# Altium footprint library 10X SD CARD READER PCB.PcbLib: 35 footprints (part 2 of 3)
Each footprint in its own frame and in the unit in brackets; x right, y up, seen from the top. Pads: shape width x height; smd on the part's side, far side on the other; paste and mask are expansions set on the pad; w line width, h text height; cw(c..) or ccw(c..) is an arc to the next point about the centre after c.
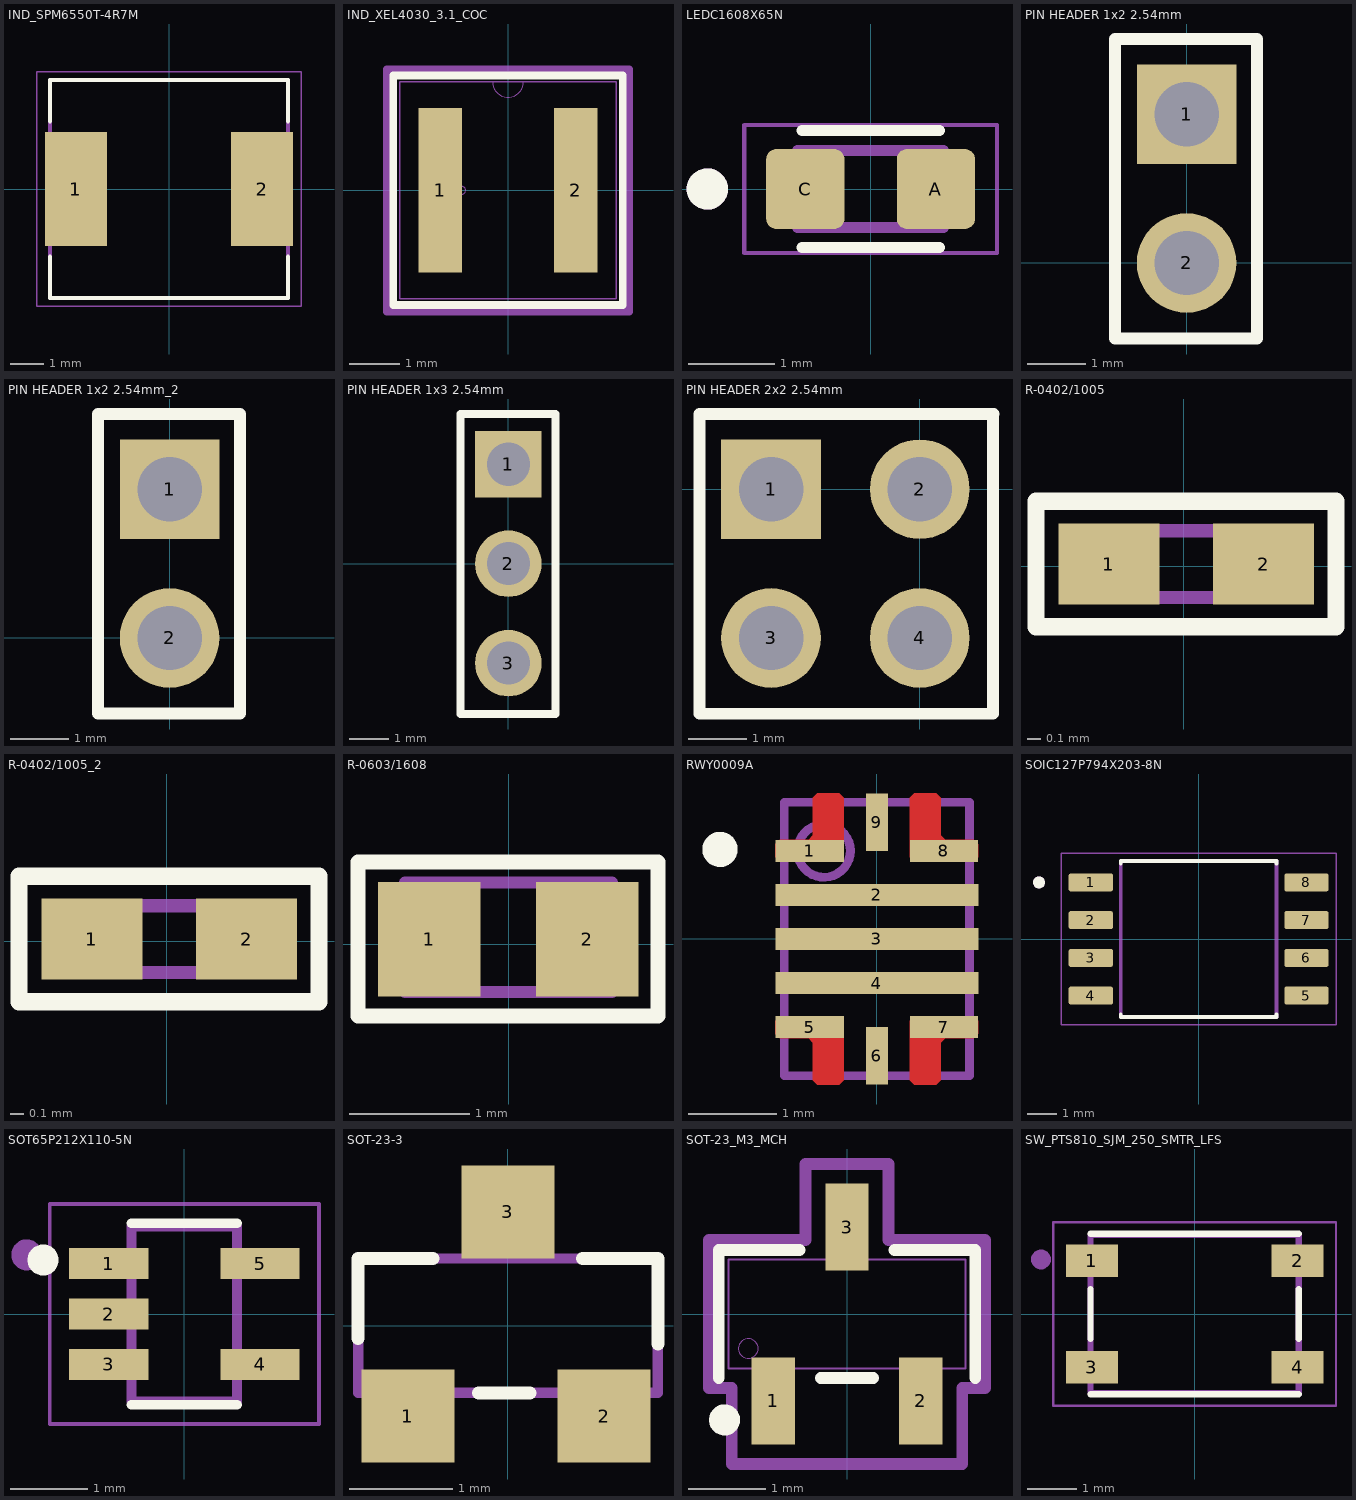
[diagram p1: the footprints below, top view; thin cyan lines are the x and y axes]

## IND_SPM6550T-4R7M [mm]
height 5
pads (2):
  rect 1.85x3.4 smd: 1(-2.775,0) 2(2.775,0)
Top Overlay:
  lines w0.127: -3.55,-2.02 -3.55,-3.25 3.55,-3.25 3.55,-2.02 ; -3.55,2.02 -3.55,3.25 3.55,3.25 3.55,2.02
Mechanical 13:
  lines w0.127: -3.55,-3.25 -3.55,3.25 3.55,3.25 3.55,-3.25 -3.55,-3.25
Mechanical 15:
  lines w0.05: -3.95,-3.5 -3.95,3.5 3.95,3.5 3.95,-3.5 -3.95,-3.5
3D body "step_temp.STEP": height 5, standoff 0, extent -3.55,-3.25 3.55,3.25

## IND_XEL4030_3.1_COC [mil]
pads (2):
  rect 34x128 smd paste+0 mask+0: 1(-53,0) 2(53,0)
Top Overlay:
  lines w6: -89.5,-89.5 89.5,-89.5 89.5,89.5 -89.5,89.5 -89.5,-89.5
Mechanical 13:
  circle w0: c-36,0 r3
  lines w0: -12,84.5 ccw(c0,84.5) 12,84.5
  lines w1: -84.5,-84.5 84.5,-84.5 84.5,84.5 -84.5,84.5 -84.5,-84.5
Mechanical 15:
  lines w6: -94.5,-94.5 -94.5,-74 -94.5,74 -94.5,94.5 94.5,94.5 94.5,74 94.5,-74 94.5,-94.5 -94.5,-94.5
3D body "IND_XEL4030_31_COC.step": height 122.09, standoff 0, extent -84.49,-84.49 84.49,84.49

## LEDC1608X65N [mm]
pads (2):
  rrect25% 0.91x0.93 smd: A(0.76,0) C(-0.76,0)
Top Overlay:
  circle w0.24: c-1.9,0 r0.12
  lines w0.127: -0.8,-0.68 0.8,-0.68 ; -0.8,0.68 0.8,0.68
Mechanical 13:
  circle w0.24: c-1.9,0 r0.12
  lines w0.127: -0.85,-0.45 0.85,-0.45 0.85,0.45 -0.85,0.45 -0.85,-0.45
Mechanical 15:
  lines w0.05: -1.47,-0.744 1.47,-0.744 1.47,0.744 -1.47,0.744 -1.47,-0.744

## PIN HEADER 1x2 2.54mm [mm]
height 0.89
pads (2):
  rect 1.7x1.7 hole 1.1: 1(0,2.54)
  round 1.7 hole 1.1: 2(0,0)
Top Overlay:
  lines w0.2: -1.221,-1.289 -1.221,3.823 1.2,3.823 1.2,-1.289 -1.221,-1.289
Top Assembly:
  lines w0.1: -1.207,-1.297 -1.207,3.817 1.158,3.817 1.158,-1.297 -1.207,-1.297

## PIN HEADER 1x2 2.54mm_2 [mm]
pads (2):
  rect 1.7x1.7 hole 1.1: 1(0,2.54)
  round 1.7 hole 1.1: 2(0,0)
Top Overlay:
  lines w0.2: -1.221,-1.289 1.2,-1.289 1.2,3.823 -1.221,3.823 -1.221,-1.289
Top Assembly:
  lines w0.1: -1.207,-1.297 1.158,-1.297 1.158,3.817 -1.207,3.817 -1.207,-1.297

## PIN HEADER 1x3 2.54mm [mm]
pads (3):
  rect 1.7x1.7 hole 1.1: 1(0,2.54)
  round 1.7 hole 1.1: 2(0,0) 3(0,-2.54)
Top Overlay:
  lines w0.2: -1.221,-3.838 -1.221,3.823 1.2,3.823 1.2,-3.838 -1.221,-3.838
Top Assembly:
  lines w0.1: -1.207,-3.838 -1.207,3.817 1.158,3.817 1.158,-3.838 -1.207,-3.838
  text "'.Designator'" at -3.223,-5.112 h1
3D body "1x3 TH Vert 100mil.STEP": height 8.38, standoff -3.3, extent -1.276,-3.819 1.264,3.801

## PIN HEADER 2x2 2.54mm [mm]
height 0.89
pads (4):
  rect 1.7x1.7 hole 1.1: 1(-2.54,0)
  round 1.7 hole 1.1: 2(0,0) 3(-2.54,-2.54) 4(0,-2.54)
Top Overlay:
  lines w0.2: 1.25,1.283 1.25,-3.831 -3.761,-3.831 -3.761,1.283 1.26,1.283
Top Assembly:
  lines w0.1: 1.263,1.277 1.263,-3.837 -3.747,-3.837 -3.747,1.277 1.274,1.277
3D body "PH2-04-UA.STEP": height 8.55, standoff -3, extent -3.759,-3.811 1.241,1.269

## R-0402/1005 [mm]
height 1.3
pads (2):
  rect 0.75x0.6 smd: 1(-0.556,0.014) 2(0.594,0.014)
Top Overlay:
  lines w0.127: -1.096,-0.451 1.13,-0.451 1.13,0.481 -1.096,0.481 -1.096,-0.451
Top Assembly:
  lines w0.1: -0.484,-0.234 0.518,-0.234 0.518,0.263 -0.484,0.263 -0.484,-0.234
  text "'.Designator'" at -3.3,-1.6 h1
3D body "0402 resistor.STEP": height 0.35, standoff 0, extent -0.482,-0.237 0.518,0.263

## R-0402/1005_2 [mm]
pads (2):
  rect 0.75x0.6 smd: 1(-0.556,0.014) 2(0.594,0.014)
Top Overlay:
  lines w0.127: -1.096,-0.451 -1.096,0.481 1.13,0.481 1.13,-0.451 -1.096,-0.451
Top Assembly:
  lines w0.1: -0.484,-0.234 -0.484,0.263 0.518,0.263 0.518,-0.234 -0.484,-0.234
  text "'.Designator'" at -3.3,-1.6 h1
3D body "0402 resistor.STEP": height 0.35, standoff 0, extent -0.482,-0.237 0.518,0.263

## R-0603/1608 [mm] "Chip Resistor, 2-Leads, Body 1.60x0.80mm, IPC Medium Density"
height 0.45
pads (2):
  rect 0.85x0.95 smd: 1(-0.659,0.042) 2(0.651,0.042)
Top Overlay:
  lines w0.127: -1.249,-0.594 1.239,-0.594 1.239,0.682 -1.249,0.682 -1.249,-0.594
Top Assembly:
  lines w0.1: -0.86,-0.394 -0.86,0.512 -0.801,0.512 0.858,0.512 0.858,-0.394 -0.86,-0.394
  text "'.Designator'" at -3.112,-1.801 h1.27
3D body "0603 resistor.STEP": height 0.45, standoff 0, extent -0.799,-0.348 0.801,0.452

## RWY0009A [mm]
pads (9):
  rect 0.775x0.25 smd paste-0.375 mask+0.051: 1(-0.761,1) 5(-0.761,-1) 7(0.761,-1) 8(0.761,1)
  rect 2.3x0.25 smd paste-1.137 mask+0.051: 2(0,0.5) 3(0,0) 4(0,-0.5)
  rect 0.25x0.65 smd paste+0 mask+0.051: 6(0,-1.325) 9(0,1.325)
Top Layer:
  region: -0.775,-1.125 -1.1,-1.125 -1.15,-1.075 -1.15,-0.925 -1.1,-0.875 -0.425,-0.875 -0.375,-0.925 -0.375,-1.6 -0.425,-1.65 -0.675,-1.65 -0.725,-1.6 -0.725,-1.175
  region: 0.375,-0.925 0.375,-1.6 0.425,-1.65 0.675,-1.65 0.725,-1.6 0.725,-1.175 0.775,-1.125 1.1,-1.125 1.15,-1.075 1.15,-0.925 1.1,-0.875 0.425,-0.875
  region: 0.425,0.875 0.375,0.925 0.375,1.6 0.425,1.65 0.675,1.65 0.725,1.6 0.725,1.175 0.775,1.125 1.1,1.125 1.15,1.075 1.15,0.925 1.1,0.875
  region: -1.1,0.875 -1.15,0.925 -1.15,1.075 -1.1,1.125 -0.775,1.125 -0.725,1.175 -0.725,1.6 -0.675,1.65 -0.425,1.65 -0.375,1.6 -0.375,0.925 -0.425,0.875
Top Overlay:
  circle w0.2: c-1.778,1.016 r0.1
Top Paste:
  drawing of 10 lines, arcs and shapes, not listed
Top Solder:
  drawing of 4 lines, arcs and shapes, not listed
Mechanical 13:
  circle w0.1: c-0.6,1 r0.3
  lines w0.1: -1.05,-1.55 1.05,-1.55 1.05,1.55 -1.05,1.55 -1.05,-1.55

## SOIC127P794X203-8N [mm]
height 0.89
pads (8):
  rrect25% 1.49x0.61 smd: 1(-3.63,1.905) 2(-3.63,0.635) 3(-3.63,-0.635) 4(-3.63,-1.905) 5(3.63,-1.905) 6(3.63,-0.635) 7(3.63,0.635) 8(3.63,1.905)
Top Overlay:
  circle w0.2: c-5.375,1.905 r0.1
  lines w0.127: -2.625,-2.53 -2.625,-2.63 2.625,-2.63 2.625,-2.53 ; -2.625,2.53 -2.625,2.63 2.625,2.63 2.625,2.53
Mechanical 13:
  circle w0.2: c-5.375,1.905 r0.1
  lines w0.127: -2.625,-2.63 2.625,-2.63 2.625,2.63 -2.625,2.63 -2.625,-2.63
Mechanical 15:
  lines w0.05: -4.625,-2.88 -4.625,2.88 4.625,2.88 4.625,-2.88 -4.625,-2.88
3D body "step_temp.STEP": height 2.03, standoff 0, extent -3.97,-2.63 3.97,2.63

## SOT65P212X110-5N [mm]
pads (5):
  rect 1.02x0.4 smd: 1(-0.975,0.65) 2(-0.975,0) 3(-0.975,-0.65) 4(0.975,-0.65) 5(0.975,0.65)
Top Overlay:
  circle w0.2: c-1.822,0.696 r0.1
  lines w0.127: -0.68,-1.17 0.68,-1.17 ; -0.68,1.17 0.68,1.17
Mechanical 13:
  circle w0.2: c-2.032,0.762 r0.1
  lines w0.127: -0.68,-1.13 -0.68,1.13 0.68,1.13 0.68,-1.13 -0.68,-1.13
Mechanical 15:
  lines w0.05: -1.735,-1.42 1.735,-1.42 1.735,1.42 -1.735,1.42 -1.735,-1.42
3D body "step_temp.STEP": height 1.1, standoff 0, extent -1.062,-1 1.062,1

## SOT-23-3 [mm]
pads (3):
  rect 0.9x0.9 smd: 1(-0.969,-0.876) 2(0.931,-0.876) 3(0,1.1)
Top Overlay:
  lines w0.127: -1.451,-0.126 -1.451,0.65 -0.725,0.65 ; -0.285,-0.655 0.215,-0.655 ; 0.725,0.65 1.454,0.65 1.454,-0.176
Top Assembly:
  lines w0.1: -1.45,-0.65 -1.45,0.65 1.45,0.65 1.45,-0.65 -1.45,-0.65
  text "'.Designator'" at -3.1,-2.5 h1
3D body "SOT23.STEP": height 1.2, standoff -0.02, extent -1.513,-1.11 1.487,1.142

## SOT-23_M3_MCH [mil]
height 35.04
pads (3):
  rect 22x44 smd paste+0 mask+0: 1(-37.4,-44) 2(37.4,-44) 3(0,44)
Top Overlay:
  circle w7.87: c-62.02,-53.68 r3.94
  lines w6: -65,-32.5 -65,32.5 -24.1,32.5 ; -13.3,-32.5 13.3,-32.5 ; 24.1,32.5 65,32.5 65,-32.5
Mechanical 13:
  circle w0: c-50,-17.5 r5
  lines w1: -60,-27.5 -60,27.5 60,27.5 60,-27.5 -60,-27.5 ; -47.4,-52 -27.4,-52 -27.4,-27.5 -47.4,-27.5 -47.4,-52 ; -10,27.5 -10,52 10,52 10,27.5 -10,27.5 ; 27.4,-52 47.4,-52 47.4,-27.5 27.4,-27.5 27.4,-52
Mechanical 15:
  lines w6: -70,-37.5 -58.4,-37.5 -58.4,-76 58.4,-76 58.4,-37.5 70,-37.5 70,37.5 21,37.5 21,76 -21,76 -21,37.5 -70,37.5 -70,-37.5
3D body "SOT-23_M3_MCH.step": height 44.09, standoff 0, extent -60,-52.01 60,52.01

## SW_PTS810_SJM_250_SMTR_LFS [mm]
height 0.89
pads (4):
  rect 1.05x0.65 smd: 1(-2.075,1.075) 2(2.075,1.075) 3(-2.075,-1.075) 4(2.075,-1.075)
Top Overlay:
  lines w0.127: -2.1,-1.62 2.1,-1.62 ; -2.1,-0.5 -2.1,0.5 ; -2.1,1.62 2.1,1.62 ; 2.1,-0.5 2.1,0.5
Mechanical 13:
  circle w0.2: c-3.1,1.1 r0.1
  lines w0.127: -2.1,-1.6 -2.1,1.6 2.1,1.6 2.1,-1.6 -2.1,-1.6
Mechanical 15:
  lines w0.05: -2.85,-1.85 -2.85,1.85 2.85,1.85 2.85,-1.85 -2.85,-1.85